# Altium schematic symbol library passives.SchLib: 2 symbols
Pins are listed as number, name and electrical type; pins without a type are passive.

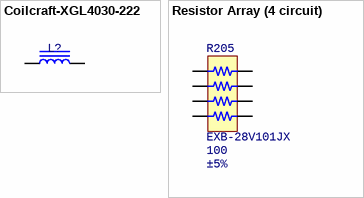
[diagram p0: symbols Coilcraft-XGL4030-222 to Resistor Array (4 circuit)]

## Coilcraft-XGL4030-222
designator L?, comment XGL4030-222MEC  (value not drawn)
Shielded Power Inductor, 2.2 uH; Value: 2.2uH
pins: 1, 2

## Resistor Array (4 circuit)
designator R205, comment Resistance (Ohms): 100  Tolerance: ±5%  (hidden comment: EXB-28V101JX)
RES ARRAY 4 RES 100 OHM 0804; Manufacturer: Panasonic Electronic Components; Circuit Type: Isolated; Number of Resistors: 4; Power Per Element: 62.5mW; Temperature Coefficient: ±200ppm/°C; Applications: Automotive AEC-Q200; ComponentLink1Description: Datasheet; ComponentLink1URL: https://industrial.panasonic.com/cdbs/www-data/pdf/AOC0000/AOC0000C14.pdf; ComponentLink2Description: DigiKey Link; ComponentLink2URL: https://www.digikey.com/en/products/detail/panasonic-electronic-components/EXB-28V101JX/256275; Height - Seated (Max): 0.018" (0.45mm); LastUpdated: 03/06/2024 20:05:56; Lifecycle Status: Active; Minimum Order: 1; Mounting Type: Surface Mount; Number of Pins: 8; Operating Temperature: -55°C ~ 125°C; Package / Case: 0804, Convex, Long Side Terminals; Packaging: TapeAndReel; PartId: 463; Part Status: Active; Price: 0.01; Series: EXB; Size / Dimension: 0.079" L x 0.039" W (2.00mm x 1.00mm); Supplier 1: DigiKey; Supplier Part Number 1: Y7101CT-ND; Supplier Device Package: 0804; Part Number: EXB-28V101JX
footprint RESNET 0804-8 CONVEX
pins: 1, 2, 3, 4, 5, 6, 7, 8